# Altium schematic symbol library H-Watch.SchLib: 8 symbols
Pins are listed as number, name and electrical type; pins without a type are passive.

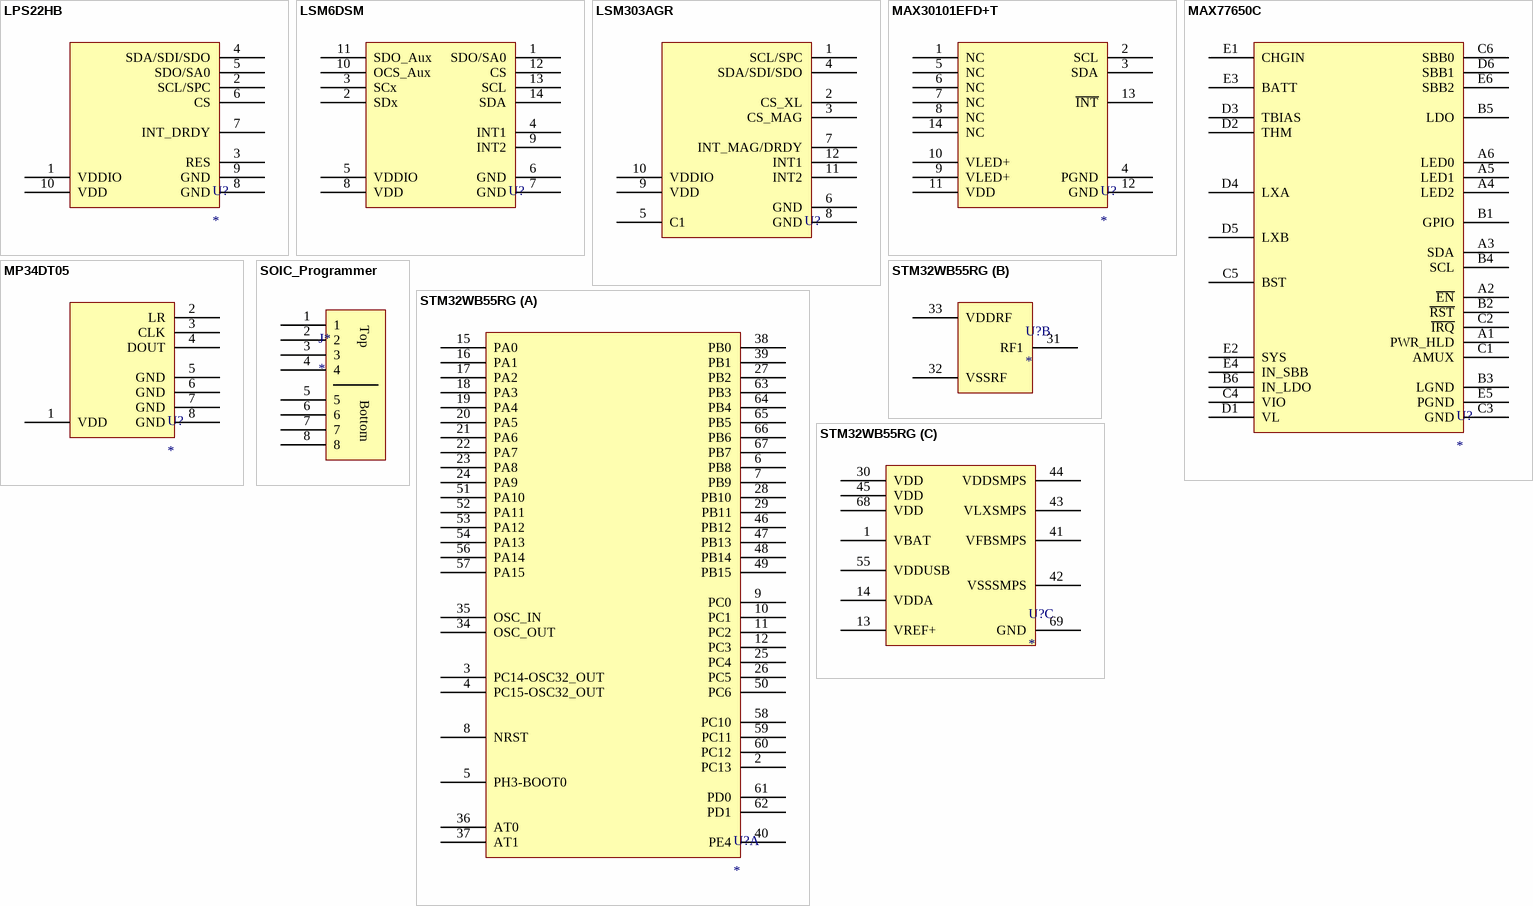
[diagram p0: symbols LPS22HB to STM32WB55RG]

## LPS22HB
designator U?
footprint HLGA-10L (HLGA-10L 2.0 x 2.0 x 0.76 mm)
pins: 1 VDDIO, 2 SCL/SPC, 3 RES, 4 SDA/SDI/SDO, 5 SDO/SA0, 6 CS, 7 INT_DRDY, 8 GND, 9 GND, 10 VDD

## LSM6DSM
designator U?
footprint LGA-14L (LGA-14L 2.5x3x0.86)
pins: 1 SDO/SA0, 2 SDx, 3 SCx, 4 INT1, 5 VDDIO, 6 GND, 7 GND, 8 VDD, 9 INT2, 10 OCS_Aux, 11 SDO_Aux, 12 CS, 13 SCL, 14 SDA

## LSM303AGR
designator U?
footprint LGA-12 (LGA-12 2x2x1 mm)
pins: 1 SCL/SPC, 2 CS_XL, 3 CS_MAG, 4 SDA/SDI/SDO, 5 C1, 6 GND, 7 INT_MAG/DRDY, 8 GND, 9 VDD, 10 VDDIO, 11 INT2, 12 INT1

## MAX30101EFD+T
designator U?
footprint MAX30101EFD+T
pins: 1 NC, 2 SCL, 3 SDA, 4 PGND, 5 NC, 6 NC, 7 NC, 8 NC, 9 VLED+, 10 VLED+, 11 VDD, 12 GND, 13 ~{INT}, 14 NC

## MAX77650C
designator U?
footprint WLP W302H2+1 (PACKAGE OUTLINE 30 BUMPS WLP PKG. 0.4 mm PITCH, W302H2+1)
pins: A1 PWR_HLD, A2 ~{EN}, A3 SDA, A4 LED2, A5 LED1, A6 LED0, B1 GPIO, B2 ~{RST}, B3 LGND, B4 SCL, B5 LDO, B6 IN_LDO, C1 AMUX, C2 ~{IRQ}, C3 GND, C4 VIO, C5 BST, C6 SBB0, D1 VL, D2 THM, D3 TBIAS, D4 LXA, D5 LXB, D6 SBB1, E1 CHGIN, E2 SYS, E3 BATT, E4 IN_SBB, E5 PGND, E6 SBB2

## MP34DT05
designator U?
footprint HLGA-4LD (3x4x1mm); pin to pad 1>2 2>3 3>1
pins: 1 VDD, 2 LR, 3 CLK, 4 DOUT, 5 GND, 6 GND, 7 GND, 8 GND

## SOIC_Programmer
designator J*
footprint Programmer
pins: 1, 2, 3, 4, 5, 6, 7, 8
text: Top; Bottom

## STM32WB55RG
designator U?
footprint VFQFPN68 (VFQFPN, 68-Leads, Body 8.00x8.00mm, Pitch 0.40mm, Thermal Pad 6.30x6.30mm, IPC Medium Density)
part A pins: 2 PC13, 3 PC14-OSC32_OUT, 4 PC15-OSC32_OUT, 5 PH3-BOOT0, 6 PB8, 7 PB9, 8 NRST, 9 PC0, 10 PC1, 11 PC2, 12 PC3, 15 PA0, 16 PA1, 17 PA2, 18 PA3, 19 PA4, 20 PA5, 21 PA6, 22 PA7, 23 PA8, 24 PA9, 25 PC4, 26 PC5, 27 PB2, 28 PB10, 29 PB11, 34 OSC_OUT, 35 OSC_IN, 36 AT0, 37 AT1, 38 PB0, 39 PB1, 40 PE4, 46 PB12, 47 PB13, 48 PB14, 49 PB15, 50 PC6, 51 PA10, 52 PA11, 53 PA12, 54 PA13, 56 PA14, 57 PA15, 58 PC10, 59 PC11, 60 PC12, 61 PD0, 62 PD1, 63 PB3, 64 PB4, 65 PB5, 66 PB6, 67 PB7
part B pins: 31 RF1, 32 VSSRF, 33 VDDRF
part C pins: 1 VBAT, 13 VREF+, 14 VDDA, 30 VDD, 41 VFBSMPS, 42 VSSSMPS, 43 VLXSMPS, 44 VDDSMPS, 45 VDD, 55 VDDUSB, 68 VDD, 69 GND